# Altium integrated library 1984633.IntLib: 1 symbol
Pins are listed as number, name and electrical type; pins without a type are passive.

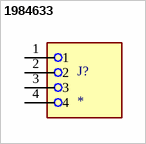
[diagram p0: symbol 1984633]

## 1984633
designator J?
MF: {'manufacturer': u'Phoenix Contact'}; MP: 1984633; Package: None; Price: None; Value: *; Availability: Unavailable
footprint PHOENIX_1984633
pins: 1, 2, 3, 4